# EAGLE library part A3949 (library MtMM)
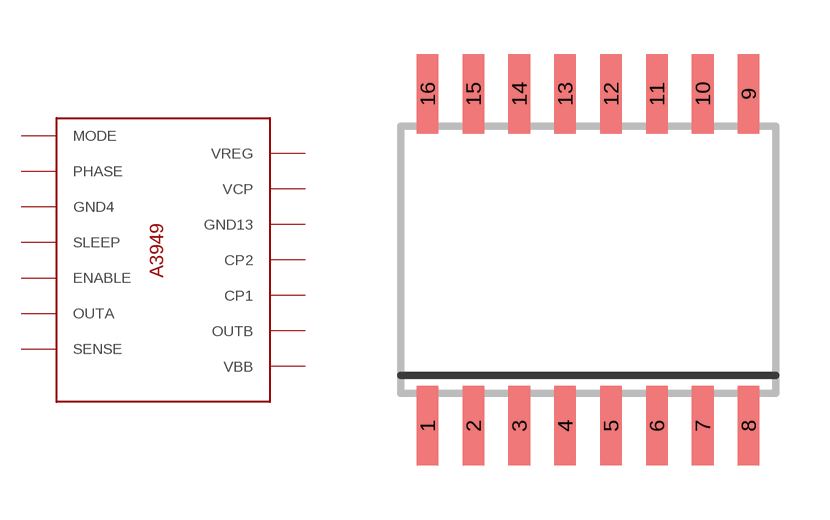
[diagram p4: symbol with the pads of SO-16DW; footprint SO-16DW]

Designator prefix -

## A3949  [SO-16DW]
2  MODE
3  PHASE
4  GND4
5  SLEEP
6  ENABLE
7  OUTA
8  SENSE
9  VBB
10  OUTB
11  CP1
12  CP2
13  GND13
14  VCP
15  VREG

## Footprint SO-16DW (pad centres in mm)
Small Outline Integrated Circuit wide
smd 0.6 x 2.2: 1 -4.445,-4.6; 2 -3.175,-4.6; 3 -1.905,-4.6; 4 -0.635,-4.6; 5 0.635,-4.6; 6 1.905,-4.6; 7 3.175,-4.6; 8 4.445,-4.6; 9 4.445,4.6; 10 3.175,4.6; 11 1.905,4.6; 12 0.635,4.6; 13 -0.635,4.6; 14 -1.905,4.6; 15 -3.175,4.6; 16 -4.445,4.6